# Altium footprint library Inductors.PcbLib: 2 footprints
Each footprint in its own frame and in the unit in brackets; x right, y up, seen from the top. Pads: shape width x height; smd on the part's side, far side on the other; paste and mask are expansions set on the pad; w line width, h text height; cw(c..) or ccw(c..) is an arc to the next point about the centre after c.
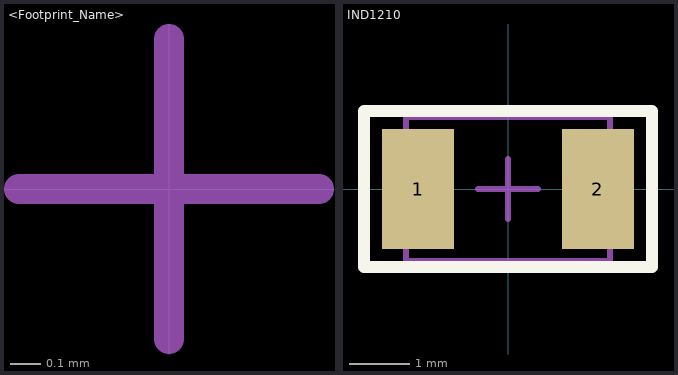
[diagram p0: the footprints below, top view; thin cyan lines are the x and y axes]

## <Footprint_Name> [mm] "<Package_Name>, <Number_of_pins>, <Pitch_in_mm>"
height 2.5
ReperDotTop:
  lines w0.1: -0.5,0 0.5,0 ; 0,-0.5 0,0.5
AssemblyOutlineTop:
  text "'.Designator'" at 0,0 h2.5

## IND1210 [mm] "1210 CM322522 Package"
height 2.5
pads (2):
  rect 1.2x2 smd: 1(-1.5,0) 2(1.5,0)
Top Overlay:
  lines w0.2: -2.4,-1.3 -2.4,1.3 2.4,1.3 2.4,-1.3 -2.4,-1.3
ReperDotTop:
  lines w0.1: -0.5,0 0.5,0 ; 0,-0.5 0,0.5
AssemblyOutlineTop:
  lines w0.1: -1.7,-1.2 -1.7,1.2 1.7,1.2 1.7,-1.2 -1.7,-1.2
  text "'.Designator'" at 0,0 h2.5
3D body "cm322522-1r0kl.stp": height 2.3, standoff 0, extent -1.678,-1.25 1.679,1.25